# EAGLE library part XMOS_AVB_BRD_V4_XE216-512-TQ128-C20_XE216-512-TQ128-C20 (library xmos_avb_brd_V4)
XE Series 512 kB RAM 2000 MIPS 16-Core 32-bit Microcontroller - TQFP-128
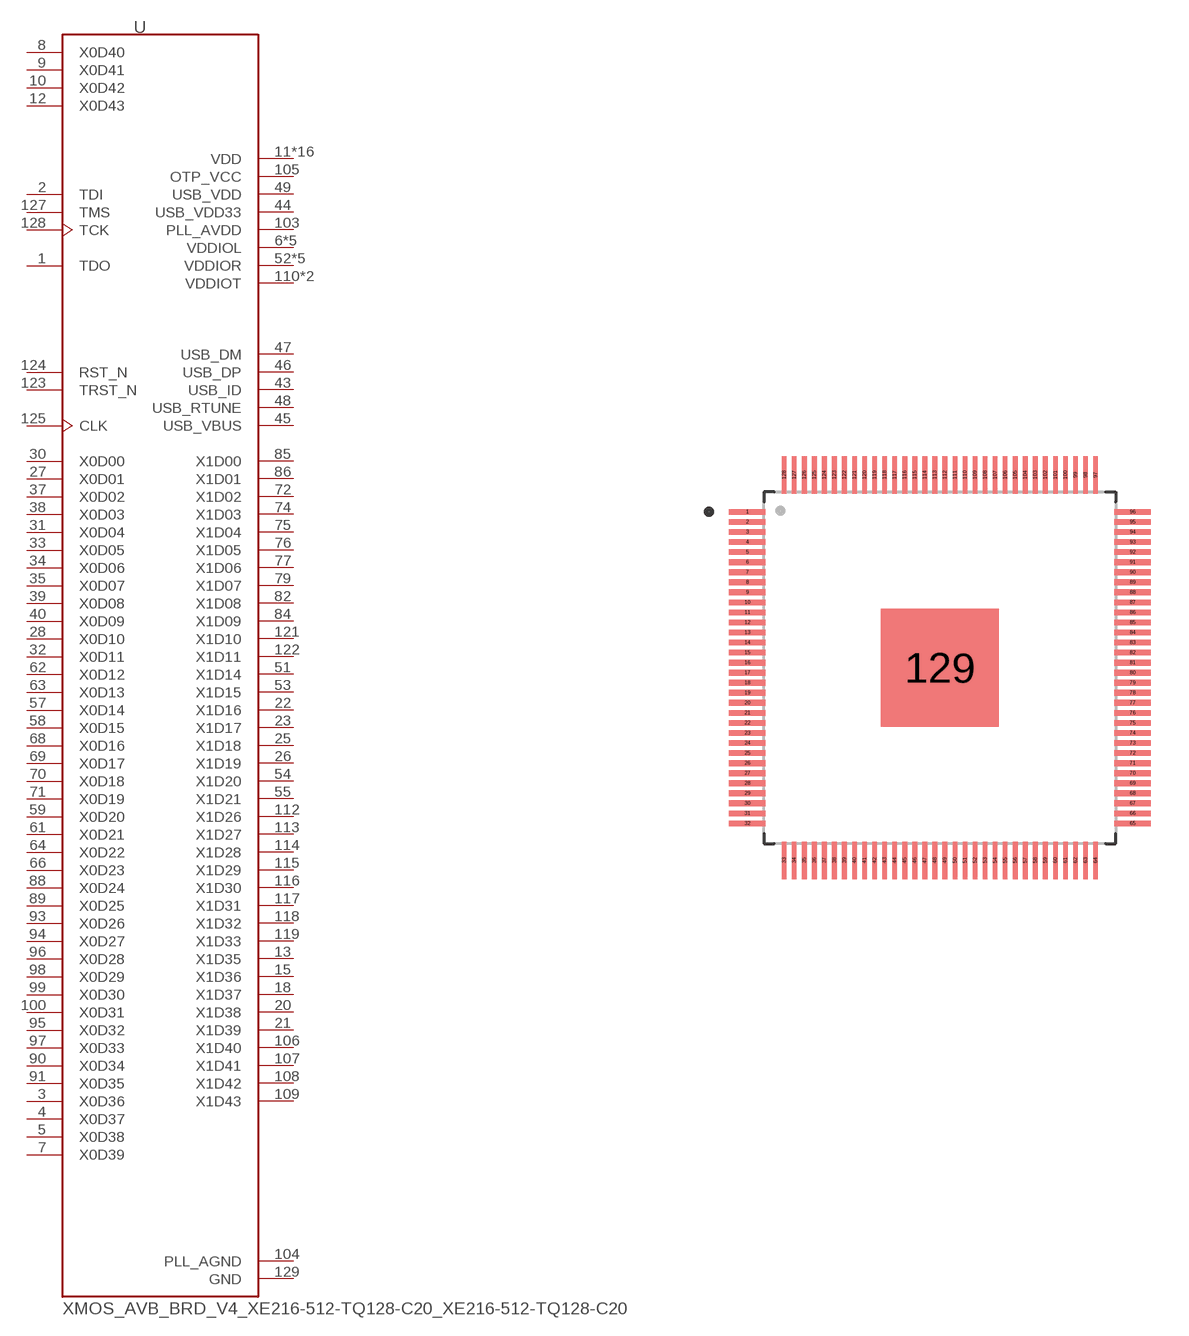
[diagram p10: symbol with the pads of XMOS_AVB_BRD_V4_XE216-512-TQ128-C20_QFP40P1600X1600X120-129N; footprint XMOS_AVB_BRD_V4_XE216-512-TQ128-C20_QFP40P1600X1600X120-129N]

Designator prefix U

## XMOS_AVB_BRD_V4_XE216-512-TQ128-C20_XE216-512-TQ128-C20 (AVAILABILITY: Unavailable; DESCRIPTION: XE Series 512 kB RAM 2000 MIPS 16-Core 32-bit Microcontroller - TQFP-128; MF: XMOS; MP: XE216-512-TQ128-C20; PACKAGE: TQFP-128 XMOS; PRICE: None)  [XMOS_AVB_BRD_V4_XE216-512-TQ128-C20_QFP40P1600X1600X120-129N]
1  TDO  out
2  TDI  in
3  X0D36
4  X0D37
5  X0D38
6  VDDIOL  pwr
7  X0D39
8  X0D40
9  X0D41
10  X0D42
11  VDD  pwr
12  X0D43
13  X1D35
14  VDDIOL  pwr
15  X1D36
16  VDD  pwr
17  VDD  pwr
18  X1D37
19  VDDIOL  pwr
20  X1D38
21  X1D39
22  X1D16
23  X1D17
24  VDD  pwr
25  X1D18
26  X1D19
27  X0D01
28  X0D10
29  VDDIOL  pwr
30  X0D00
31  X0D04
32  X0D11
33  X0D05
34  X0D06
35  X0D07
36  VDD  pwr
37  X0D02
38  X0D03
39  X0D08
40  X0D09
41  VDD  pwr
42  VDDIOL  pwr
43  USB_ID
44  USB_VDD33  pwr
45  USB_VBUS
46  USB_DP
47  USB_DM
48  USB_RTUNE
49  USB_VDD  pwr
51  X1D14
52  VDDIOR  pwr
53  X1D15
54  X1D20
55  X1D21
56  VDD  pwr
57  X0D14
58  X0D15
59  X0D20
60  VDD  pwr
61  X0D21
62  X0D12
63  X0D13
64  X0D22
66  X0D23
67  VDDIOR  pwr
68  X0D16
69  X0D17
70  X0D18
71  X0D19
72  X1D02
73  VDD  pwr
74  X1D03
75  X1D04
76  X1D05
77  X1D06
78  VDDIOR  pwr
79  X1D07
80  VDD  pwr
81  VDD  pwr
82  X1D08
83  VDDIOR  pwr
84  X1D09
85  X1D00
86  X1D01
87  VDD  pwr
88  X0D24
89  X0D25
90  X0D34
91  X0D35
92  VDDIOR  pwr
93  X0D26
94  X0D27
95  X0D32
96  X0D28
97  X0D33
98  X0D29
99  X0D30
100  X0D31
101  VDD  pwr
102  VDD  pwr
103  PLL_AVDD  pwr
104  PLL_AGND  pwr
105  OTP_VCC  pwr
106  X1D40
107  X1D41
108  X1D42
109  X1D43
110  VDDIOT  pwr
111  VDDIOT  pwr
112  X1D26
113  X1D27
114  X1D28
115  X1D29
116  X1D30
117  X1D31
118  X1D32
119  X1D33
120  VDD  pwr
121  X1D10
122  X1D11
123  TRST_N  in
124  RST_N  in
125  CLK  in
126  VDD  pwr
127  TMS  in
128  TCK  in
129  GND  pwr

## Footprint XMOS_AVB_BRD_V4_XE216-512-TQ128-C20_QFP40P1600X1600X120-129N (pad centres in mm)
smd 1.47 x 0.2: 1 -7.67,6.2; 2 -7.67,5.8; 3 -7.67,5.4; 4 -7.67,5; 5 -7.67,4.6; 6 -7.67,4.2; 7 -7.67,3.8; 8 -7.67,3.4; 9 -7.67,3; 10 -7.67,2.6; 11 -7.67,2.2; 12 -7.67,1.8; 13 -7.67,1.4; 14 -7.67,1; 15 -7.67,0.6; 16 -7.67,0.2; 17 -7.67,-0.2; 18 -7.67,-0.6; 19 -7.67,-1; 20 -7.67,-1.4; 21 -7.67,-1.8; 22 -7.67,-2.2; 23 -7.67,-2.6; 24 -7.67,-3; 25 -7.67,-3.4; 26 -7.67,-3.8; 27 -7.67,-4.2; 28 -7.67,-4.6; 29 -7.67,-5; 30 -7.67,-5.4; 31 -7.67,-5.8; 32 -7.67,-6.2; 65 7.67,-6.2; 66 7.67,-5.8; 67 7.67,-5.4; 68 7.67,-5; 69 7.67,-4.6; 70 7.67,-4.2; 71 7.67,-3.8; 72 7.67,-3.4; 73 7.67,-3; 74 7.67,-2.6; 75 7.67,-2.2; 76 7.67,-1.8; 77 7.67,-1.4; 78 7.67,-1; 79 7.67,-0.6; 80 7.67,-0.2; 81 7.67,0.2; 82 7.67,0.6; 83 7.67,1; 84 7.67,1.4; 85 7.67,1.8; 86 7.67,2.2; 87 7.67,2.6; 88 7.67,3; 89 7.67,3.4; 90 7.67,3.8; 91 7.67,4.2; 92 7.67,4.6; 93 7.67,5; 94 7.67,5.4; 95 7.67,5.8; 96 7.67,6.2
smd 0.2 x 1.47: 33 -6.2,-7.67; 34 -5.8,-7.67; 35 -5.4,-7.67; 36 -5,-7.67; 37 -4.6,-7.67; 38 -4.2,-7.67; 39 -3.8,-7.67; 40 -3.4,-7.67; 41 -3,-7.67; 42 -2.6,-7.67; 43 -2.2,-7.67; 44 -1.8,-7.67; 45 -1.4,-7.67; 46 -1,-7.67; 47 -0.6,-7.67; 48 -0.2,-7.67; 49 0.2,-7.67; 50 0.6,-7.67; 51 1,-7.67; 52 1.4,-7.67; 53 1.8,-7.67; 54 2.2,-7.67; 55 2.6,-7.67; 56 3,-7.67; 57 3.4,-7.67; 58 3.8,-7.67; 59 4.2,-7.67; 60 4.6,-7.67; 61 5,-7.67; 62 5.4,-7.67; 63 5.8,-7.67; 64 6.2,-7.67; 97 6.2,7.67; 98 5.8,7.67; 99 5.4,7.67; 100 5,7.67; 101 4.6,7.67; 102 4.2,7.67; 103 3.8,7.67; 104 3.4,7.67; 105 3,7.67; 106 2.6,7.67; 107 2.2,7.67; 108 1.8,7.67; 109 1.4,7.67; 110 1,7.67; 111 0.6,7.67; 112 0.2,7.67; 113 -0.2,7.67; 114 -0.6,7.67; 115 -1,7.67; 116 -1.4,7.67; 117 -1.8,7.67; 118 -2.2,7.67; 119 -2.6,7.67; 120 -3,7.67; 121 -3.4,7.67; 122 -3.8,7.67; 123 -4.2,7.67; 124 -4.6,7.67; 125 -5,7.67; 126 -5.4,7.67; 127 -5.8,7.67; 128 -6.2,7.67
smd 4.7 x 4.7: 129 0,0